# EAGLE library part FT2232H (library untitled)
DUAL HIGH SPEED USB TO MULTIPURPOSE UART/FIFO IC
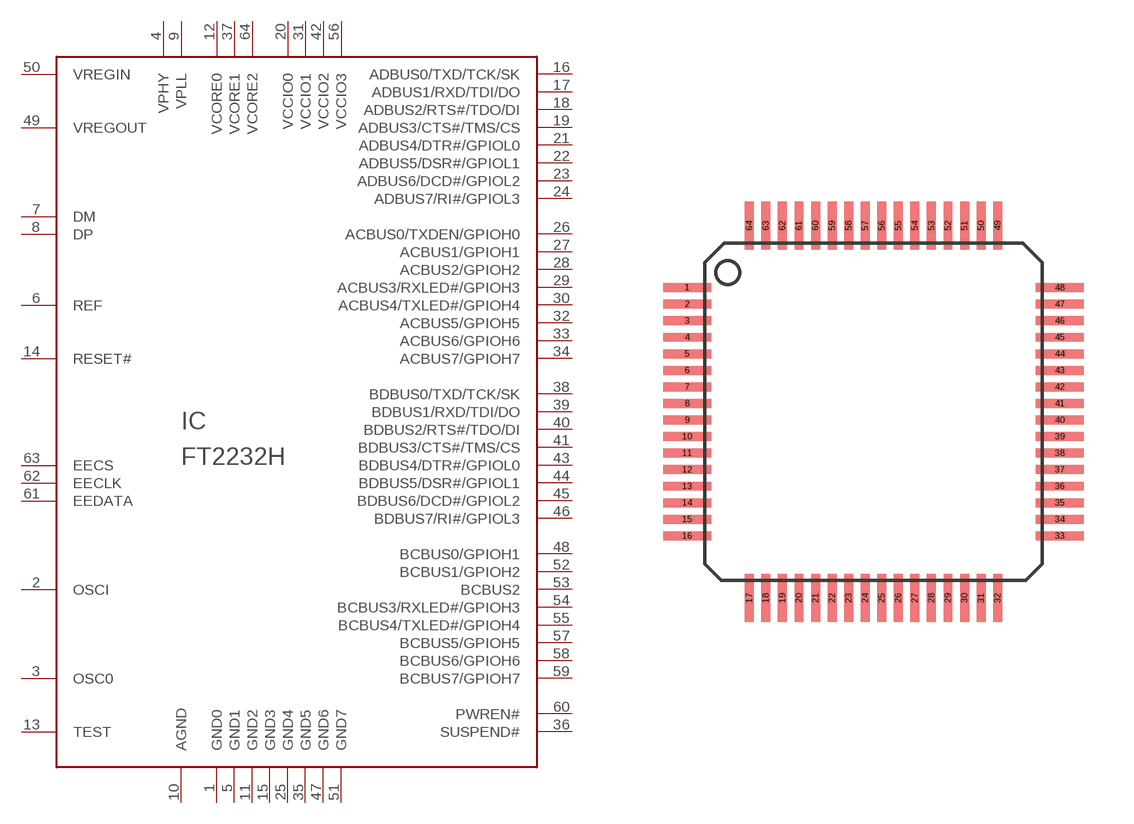
[diagram p19: symbol with the pads of LQFP64; footprint LQFP64]

Designator prefix IC

## FT2232H  [LQFP64]
1  GND0
2  OSCI
3  OSC0
4  VPHY
5  GND1
6  REF
7  DM
8  DP
9  VPLL
10  AGND
11  GND2
12  VCORE0
13  TEST
14  RESET#
15  GND3
16  ADBUS0/TXD/TCK/SK
17  ADBUS1/RXD/TDI/DO
18  ADBUS2/RTS#/TDO/DI
19  ADBUS3/CTS#/TMS/CS
20  VCCIO0
21  ADBUS4/DTR#/GPIOL0
22  ADBUS5/DSR#/GPIOL1
23  ADBUS6/DCD#/GPIOL2
24  ADBUS7/RI#/GPIOL3
25  GND4
26  ACBUS0/TXDEN/GPIOH0
27  ACBUS1/GPIOH1
28  ACBUS2/GPIOH2
29  ACBUS3/RXLED#/GPIOH3
30  ACBUS4/TXLED#/GPIOH4
31  VCCIO1
32  ACBUS5/GPIOH5
33  ACBUS6/GPIOH6
34  ACBUS7/GPIOH7
35  GND5
36  SUSPEND#
37  VCORE1
38  BDBUS0/TXD/TCK/SK
39  BDBUS1/RXD/TDI/DO
40  BDBUS2/RTS#/TDO/DI
41  BDBUS3/CTS#/TMS/CS
42  VCCIO2
43  BDBUS4/DTR#/GPIOL0
44  BDBUS5/DSR#/GPIOL1
45  BDBUS6/DCD#/GPIOL2
46  BDBUS7/RI#/GPIOL3
47  GND6
48  BCBUS0/GPIOH1
49  VREGOUT
50  VREGIN
51  GND7
52  BCBUS1/GPIOH2
53  BCBUS2
54  BCBUS3/RXLED#/GPIOH3
55  BCBUS4/TXLED#/GPIOH4
56  VCCIO3
57  BCBUS5/GPIOH5
58  BCBUS6/GPIOH6
59  BCBUS7/GPIOH7
60  PWREN#
61  EEDATA
62  EECLK
63  EECS
64  VCORE2

## Footprint LQFP64 (pad centres in mm)
LQFP64 Richard Myrick T. Arellaga March2010
smd 1.45 x 0.27: 1 -5.625,3.75; 2 -5.625,3.25; 3 -5.625,2.75; 4 -5.625,2.25; 5 -5.625,1.75; 6 -5.625,1.25; 7 -5.625,0.75; 8 -5.625,0.25; 9 -5.625,-0.25; 10 -5.625,-0.75; 11 -5.625,-1.25; 12 -5.625,-1.75; 13 -5.625,-2.25; 14 -5.625,-2.75; 15 -5.625,-3.25; 16 -5.625,-3.75; 33 5.625,-3.75; 34 5.625,-3.25; 35 5.625,-2.75; 36 5.625,-2.25; 37 5.625,-1.75; 38 5.625,-1.25; 39 5.625,-0.75; 40 5.625,-0.25; 41 5.625,0.25; 42 5.625,0.75; 43 5.625,1.25; 44 5.625,1.75; 45 5.625,2.25; 46 5.625,2.75; 47 5.625,3.25; 48 5.625,3.75
smd 0.27 x 1.45: 17 -3.75,-5.625; 18 -3.25,-5.625; 19 -2.75,-5.625; 20 -2.25,-5.625; 21 -1.75,-5.625; 22 -1.25,-5.625; 23 -0.75,-5.625; 24 -0.25,-5.625; 25 0.25,-5.625; 26 0.75,-5.625; 27 1.25,-5.625; 28 1.75,-5.625; 29 2.25,-5.625; 30 2.75,-5.625; 31 3.25,-5.625; 32 3.75,-5.625; 49 3.75,5.625; 50 3.25,5.625; 51 2.75,5.625; 52 2.25,5.625; 53 1.75,5.625; 54 1.25,5.625; 55 0.75,5.625; 56 0.25,5.625; 57 -0.25,5.625; 58 -0.75,5.625; 59 -1.25,5.625; 60 -1.75,5.625; 61 -2.25,5.625; 62 -2.75,5.625; 63 -3.25,5.625; 64 -3.75,5.625